# EAGLE library part PIC16F688 (library pedalier)
PIC16F688
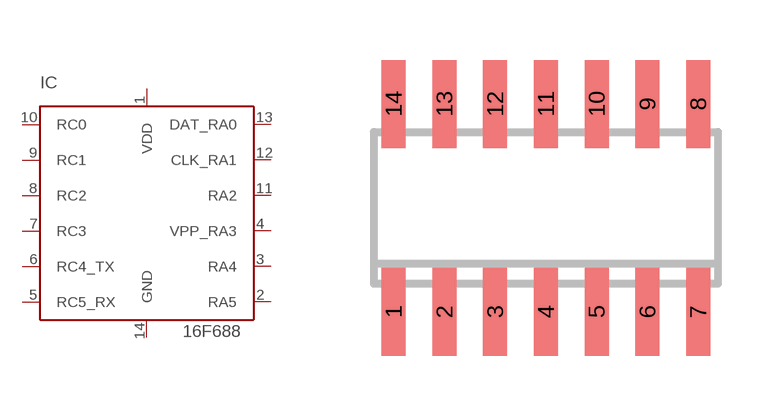
[diagram p0: symbol with the pads of SO14; footprint SO14]

Designator prefix IC

## PIC16F688SOIC14  [SO14]
1  VDD  pas
2  RA5  pas
3  RA4  pas
4  VPP_RA3  pas
5  RC5_RX  pas
6  RC4_TX  pas
7  RC3  pas
8  RC2  pas
9  RC1  pas
10  RC0  pas
11  RA2  pas
12  CLK_RA1  pas
13  DAT_RA0  pas
14  GND  pas

## Footprint SO14 (pad centres in mm)
SMALL OUTLINE INTEGRATED CIRCUIT body 3.9 mm/JEDEC MS-012AC
smd 0.6 x 2.2: 1 -3.81,-2.6; 2 -2.54,-2.6; 3 -1.27,-2.6; 4 0,-2.6; 5 1.27,-2.6; 6 2.54,-2.6; 7 3.81,-2.6; 8 3.81,2.6; 9 2.54,2.6; 10 1.27,2.6; 11 0,2.6; 12 -1.27,2.6; 13 -2.54,2.6; 14 -3.81,2.6